# Altium schematic symbol library Discrete.SchLib: 24 symbols
Pins are listed as number, name and electrical type; pins without a type are passive.

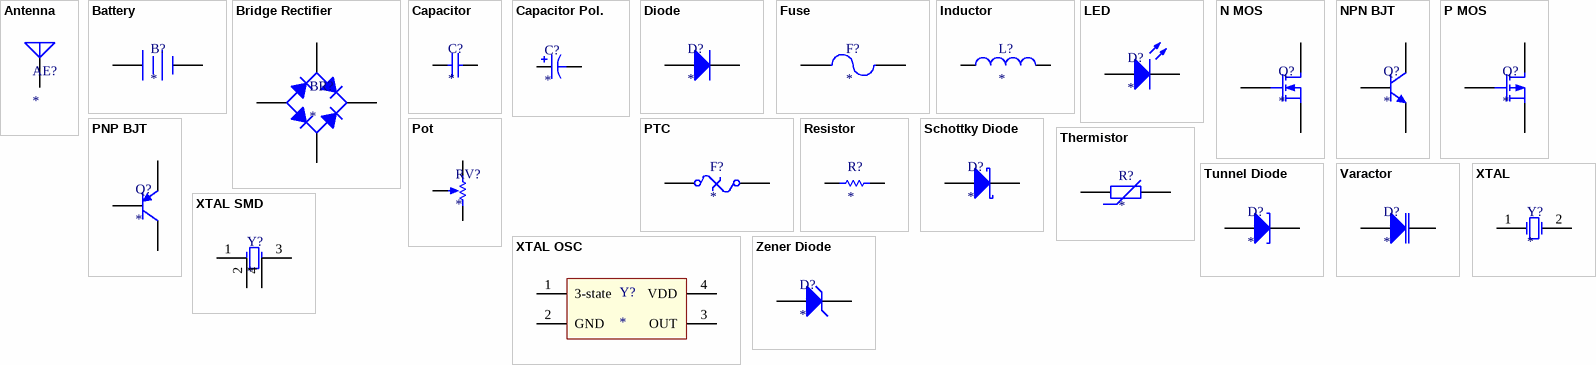
[diagram p0: symbols Antenna to Zener Diode]

## Antenna
designator AE?
pins: 1 A

## Battery
designator B?
pins: 1 +, 2 -

## Bridge Rectifier
designator BR?
pins: 1 K, 2 C, 3 A, 4 C

## Capacitor
designator C?
Unpolarized capacitor
pins: 1, 2

## Capacitor Pol.
designator C?
Polarized capacitor
pins: 1, 2

## Diode
designator D?
pins: 1 A, 2 K

## Fuse
designator F?
pins: 1, 2

## Inductor
designator L?
pins: 1, 2

## LED
designator D?
pins: 1 A, 2 K

## N MOS
designator Q?
General N-channel MOSFET
pins: 1 D, 2 G, 3 S

## NPN BJT
designator Q?
General NPN BJT transistor
pins: 1 E, 2 B, 3 C

## P MOS
designator Q?
General P-channel MOSFET
pins: 1 D, 2 G, 3 S

## PNP BJT
designator Q?
General PNP BJT transistor
pins: 1 E, 2 B, 3 C

## Pot
designator RV?
Potentiometer
pins: 1 TOP, 2 BOT, 3 TAP

## PTC
designator F?
Thermal fuse
pins: 1, 2

## Resistor
designator R?
pins: 1, 2

## Schottky Diode
designator D?
pins: 1 A, 2 K

## Thermistor
designator R?
Temperature-variable resistor
pins: 1, 2

## Tunnel Diode
designator D?
pins: 1 A, 2 K

## Varactor
designator D?
pins: 1 K, 3 A

## XTAL
designator Y?
Two-terminal crystal
pins: 1 OSC1, 2 OSC2

## XTAL OSC
designator Y?
Crystal oscillator
pins: 1 3-state, 2 GND (power), 3 OUT, 4 VDD (power)

## XTAL SMD
designator Y?
pins: 1 OSC1, 2 3, 3 OSC2, 4

## Zener Diode
designator D?
pins: 1 A, 2 K